# Altium footprint library buck4.PcbLib: 16 footprints
Each footprint in its own frame and in the unit in brackets; x right, y up, seen from the top. Pads: shape width x height; smd on the part's side, far side on the other; paste and mask are expansions set on the pad; w line width, h text height; cw(c..) or ccw(c..) is an arc to the next point about the centre after c.
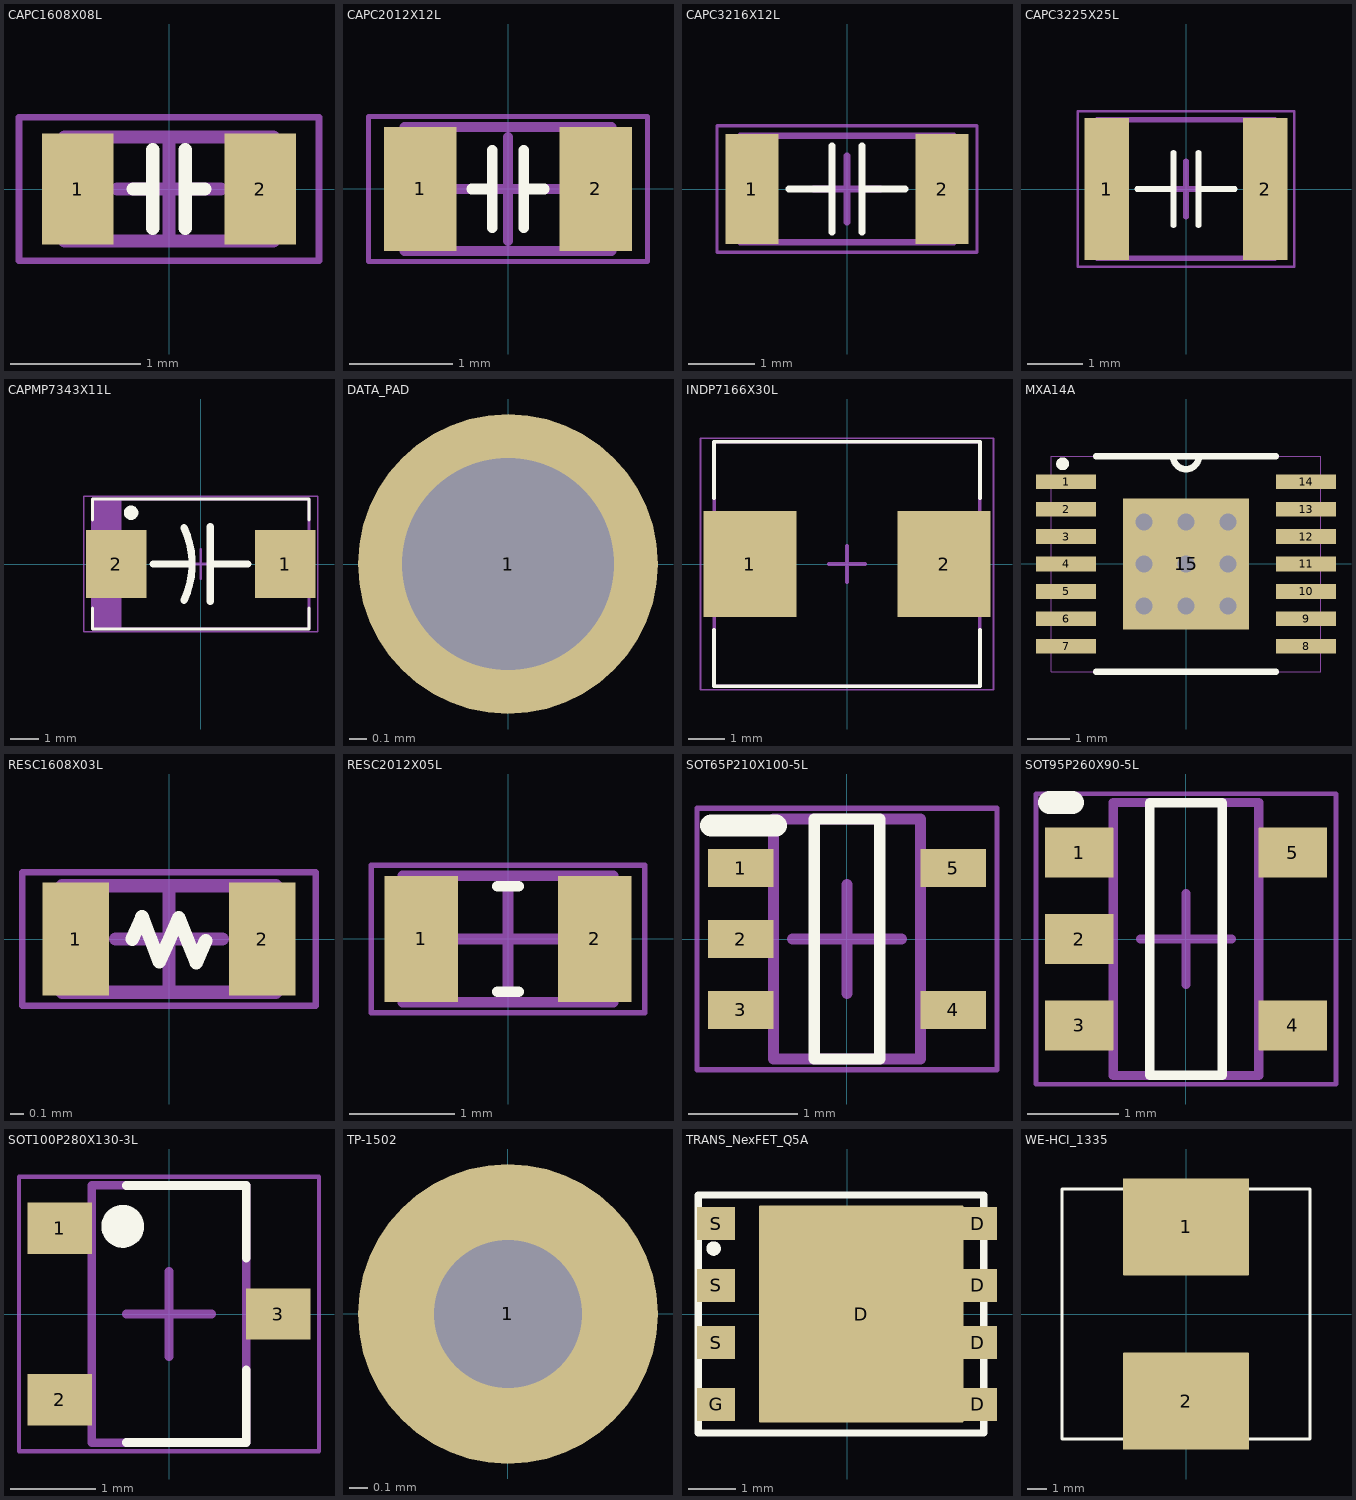
[diagram p0: the footprints below, top view; thin cyan lines are the x and y axes]

## CAPC1608X08L [mm] "Chip Capacitor, 2-Leads, Body 1.60x0.80mm, IPC High Density"
height 0.8
pads (2):
  rrect1% 0.55x0.85 smd: 1(-0.7,0) 2(0.7,0)
Top Overlay:
  lines w0.102: -0.275,0 -0.125,0 ; -0.125,-0.3 -0.125,0.3 ; 0.125,-0.3 0.125,0.3 ; 0.125,0 0.275,0
Top Courtyard:
  lines w0.05: -1.15,-0.55 1.15,-0.55 1.15,0.55 -1.15,0.55 -1.15,-0.55
  lines w0.1: -0.4,0 0.4,0 ; 0,-0.4 0,0.4
Mechanical 13:
  lines w0.1: -0.8,-0.4 0.8,-0.4 0.8,0.4 -0.8,0.4 -0.8,-0.4
3D body "CAPC1608X08L.step": height 0.8, standoff 0, extent -0.8,-0.4 0.8,0.4

## CAPC2012X12L [mm] "Chip Capacitor, 2-Leads, Body 2.00x1.20mm, IPC High Density"
height 1.2
pads (2):
  rrect1% 0.7x1.2 smd: 1(-0.85,0) 2(0.85,0)
Top Overlay:
  lines w0.102: -0.35,0 -0.15,0 ; -0.15,-0.375 -0.15,0.375 ; 0.15,-0.375 0.15,0.375 ; 0.15,0 0.35,0
Top Courtyard:
  lines w0.05: -1.35,-0.7 1.35,-0.7 1.35,0.7 -1.35,0.7 -1.35,-0.7
  lines w0.1: -0.5,0 0.5,0 ; 0,-0.5 0,0.5
Mechanical 13:
  lines w0.1: -1,-0.6 1,-0.6 1,0.6 -1,0.6 -1,-0.6
3D body "CAPC2012X12L.step": height 1.2, standoff 0, extent -1,-0.6 1,0.6

## CAPC3216X12L [mm] "Chip Capacitor, 2-Leads, Body 3.20x1.60mm, IPC High Density"
height 1.2
pads (2):
  rrect1% 0.8x1.65 smd: 1(-1.425,0) 2(1.425,0)
Top Overlay:
  lines w0.102: -0.875,0 -0.225,0 ; -0.225,-0.65 -0.225,0.65 ; 0.225,-0.65 0.225,0.65 ; 0.225,0 0.875,0
Top Courtyard:
  lines w0.05: -1.95,-0.95 1.95,-0.95 1.95,0.95 -1.95,0.95 -1.95,-0.95
  lines w0.1: -0.5,0 0.5,0 ; 0,-0.5 0,0.5
Mechanical 13:
  lines w0.1: -1.6,-0.8 1.6,-0.8 1.6,0.8 -1.6,0.8 -1.6,-0.8
3D body "CAPC3216X12L.step": height 1.2, standoff 0, extent -1.6,-0.8 1.6,0.8

## CAPC3225X25L [mm] "Chip Capacitor, 2-Leads, Body 3.20x2.50mm, IPC High Density"
height 2.5
pads (2):
  rrect1% 0.8x2.55 smd: 1(-1.425,0) 2(1.425,0)
Top Overlay:
  lines w0.102: -0.875,0 -0.225,0 ; -0.225,-0.65 -0.225,0.65 ; 0.225,-0.65 0.225,0.65 ; 0.225,0 0.875,0
Top Courtyard:
  lines w0.05: -1.95,-1.4 1.95,-1.4 1.95,1.4 -1.95,1.4 -1.95,-1.4
  lines w0.1: -0.5,0 0.5,0 ; 0,-0.5 0,0.5
Mechanical 13:
  lines w0.1: -1.6,-1.25 1.6,-1.25 1.6,1.25 -1.6,1.25 -1.6,-1.25
3D body "CAPC3225X25L.step": height 2.5, standoff 0, extent -1.6,-1.25 1.6,1.25

## CAPMP7343X11L [mm] "Molded Capacitor, 2-Leads, Body 7.30x4.30mm, IPC High Density"
height 1.1
pads (2):
  rrect1% 2.1x2.35 smd: 1(2.925,0) 2(-2.925,0)
Top Overlay:
  circle w0.25: c-2.413,1.778 r0.125
  lines w0.102: -3.75,-1.526 -3.75,-2.25 3.75,-2.25 3.75,-1.526 ; -3.75,1.526 -3.75,2.25 3.75,2.25 3.75,1.526
  lines w0.254: -1.65,0 -0.3,0 ; -0.581,-1.268 ccw(c-3.3,0) -0.581,1.268 ; 0.325,-1.3 0.325,1.3 ; 0.325,0 1.625,0
Top Courtyard:
  lines w0.05: -4.05,-2.35 4.05,-2.35 4.05,2.35 -4.05,2.35 -4.05,-2.35
  lines w0.1: -0.5,0 0.5,0 ; 0,-0.5 0,0.5
Mechanical 13:
  rectangle: -3.75,-2.25 -2.741,2.25
  lines w0.1: -3.75,-2.25 3.75,-2.25 3.75,2.25 -3.75,2.25 -3.75,-2.25
3D body "CAPMP7343X11L.step": height 1.1, standoff 0, extent -3.97,-2.25 3.97,2.25

## DATA_PAD [mm]
pads (1):
  round 1.7 hole 1.2: 1(0,0)

## INDP7166X30L [mm] "Precision Wire Wound Inductor, 2-Leads, Body 7.10x6.60mm, IPC High Density"
height 3
pads (2):
  rrect1% 2.6x2.95 smd: 1(-2.7,0) 2(2.7,0)
Top Overlay:
  lines w0.102: -3.7,-1.826 -3.7,-3.4 3.7,-3.4 3.7,-1.826 ; -3.7,1.826 -3.7,3.4 3.7,3.4 3.7,1.826
Top Courtyard:
  lines w0.05: -4.075,-3.5 -4.075,3.5 4.075,3.5 4.075,-3.5 -4.075,-3.5
  lines w0.1: -0.5,0 0.5,0 ; 0,-0.5 0,0.5
Mechanical 13:
  lines w0.1: -3.7,-3.4 -3.7,3.4 3.7,3.4 3.7,-3.4 -3.7,-3.4
3D body "INDP7166X30L.step": height 3.1, standoff 0, extent -3.65,-3.3 3.65,3.3

## MXA14A [mil]
pads (15):
  rrect1% 56x13.78 smd mask+1.97: 1(-112,76.77) 2(-112,51.18) 3(-112,25.59) 4(-112,0) 5(-112,-25.59) 6(-112,-51.18) 7(-112,-76.77) 8(112,-76.77) 9(112,-51.18) 10(112,-25.59) 11(112,0) 12(112,25.59) 13(112,51.18) 14(112,76.77)
  rrect1% 118x122 smd mask+1.97: 15(0,0)
via -39.37,0 diameter 25.59 hole 15.75
via -39.37,-39.37 diameter 25.59 hole 15.75
via 0,-39.37 diameter 25.59 hole 15.75
via 39.37,-39.37 diameter 25.59 hole 15.75
via 39.37,0 diameter 25.59 hole 15.75
via 39.37,39.37 diameter 25.59 hole 15.75
via 0,39.37 diameter 25.59 hole 15.75
via -39.37,39.37 diameter 25.59 hole 15.75
via 0,0 diameter 25.59 hole 15.75
Top Overlay:
  circle w6: c-115.16,93.5 r3
  lines w6: -84.02,-100.5 84.02,-100.5 ; -84.02,100.5 84.02,100.5 ; -12,100.5 ccw(c0,100.5) 12,100.5
Top Solder:
  circle w7.87: c-39.37,39.37 r15.75
  circle w7.87: c0,39.37 r15.75
  circle w7.87: c39.37,39.37 r15.75
  circle w7.87: c39.37,0 r15.75
  circle w7.87: c-39.37,0 r15.75
  circle w7.87: c-39.37,-39.37 r15.75
  circle w7.87: c0,-39.37 r15.75
  circle w7.87: c39.37,-39.37 r15.75
  circle w7.87: c0,0 r15.75
  rectangle: 51.18,-61.02 61.02,61.02
  region: 61.02,11.81 61.02,27.56 -61.02,27.56 -61.02,11.81
  region: 61.02,-27.56 61.02,-11.81 -61.02,-11.81 -61.02,-27.56
  region: 61.02,-61.02 61.02,-51.18 -61.02,-51.18 -61.02,-61.02
  region: 61.02,51.18 61.02,61.02 -61.02,61.02 -61.02,51.18
  rectangle: -61.02,-61.02 -51.18,61.02
  rectangle: -27.56,-61.02 -11.81,61.02
  rectangle: 11.81,-61.02 27.56,61.02
Top Courtyard:
  lines w1: -125.98,-100.39 125.98,-100.39 125.98,100.39 -125.98,100.39 -125.98,-100.39
3D body "MXA14A.stp": height 43.1, standoff 0, extent -126,-100.5 126,100.5

## RESC1608X03L [mm] "Chip Resistor, 2-Leads, Body 1.60x0.80mm, IPC High Density"
height 0.3
pads (2):
  rrect1% 0.5x0.85 smd: 1(-0.7,0) 2(0.7,0)
Top Overlay:
  lines w0.102: -0.275,0 -0.203,0.165 -0.137,-0.003 -0.072,-0.171 0.001,-0.006 0.073,0.159 0.139,-0.009 0.204,-0.177 0.277,-0.011
Top Courtyard:
  lines w0.05: -1.1,-0.5 -1.1,0.5 1.1,0.5 1.1,-0.5 -1.1,-0.5
  lines w0.1: -0.4,0 0.4,0 ; 0,-0.4 0,0.4
Mechanical 13:
  lines w0.1: -0.8,-0.4 -0.8,0.4 0.8,0.4 0.8,-0.4 -0.8,-0.4
3D body "RESC1608X03L.step": height 0.3, standoff 0, extent -0.8,-0.4 0.8,0.4

## RESC2012X05L [mm] "Chip Resistor, 2-Leads, Body 2.00x1.20mm, IPC High Density"
height 0.5
pads (2):
  rrect1% 0.7x1.2 smd: 1(-0.825,0) 2(0.825,0)
Top Overlay:
  lines w0.102: -0.1,-0.5 0.1,-0.5 ; -0.1,0.5 0.1,0.5
Top Courtyard:
  lines w0.05: -1.3,-0.7 -1.3,0.7 1.3,0.7 1.3,-0.7 -1.3,-0.7
  lines w0.1: -0.5,0 0.5,0 ; 0,-0.5 0,0.5
Mechanical 13:
  lines w0.1: -1,-0.6 -1,0.6 1,0.6 1,-0.6 -1,-0.6
3D body "RESC2012X05L.step": height 0.5, standoff 0, extent -1,-0.6 1,0.6

## SOT65P210X100-5L [mm] "SOT23, 5-Leads, Body 2.00x2.10mm, Pitch 0.65mm, IPC High Density"
height 1
pads (5):
  rrect1% 0.6x0.35 smd: 1(-0.975,0.65) 2(-0.975,0) 3(-0.975,-0.65) 4(0.975,-0.65) 5(0.975,0.65)
Top Overlay:
  lines w0.102: -0.3,-1.1 0.3,-1.1 0.3,1.1 -0.3,1.1 -0.3,-1.1
  lines w0.203: -1.245,1.041 -0.65,1.041
Mechanical 13:
  lines w0.1: -0.675,-1.1 -0.675,1.1 0.675,1.1 0.675,-1.1 -0.675,-1.1
Mechanical 15:
  lines w0.05: -1.375,-1.2 -1.375,1.2 1.375,1.2 1.375,-1.2 -1.375,-1.2
  lines w0.1: -0.5,0 0.5,0 ; 0,-0.5 0,0.5
3D body "SOT65P210X100-5L.step": height 1, standoff 0, extent -1.1,-1.1 1.1,1.1

## SOT95P260X90-5L [mm] "SOT23, 5-Leads, Body 3.00x2.60mm, Pitch 0.95mm, IPC High Density"
height 0.9
pads (5):
  rrect1% 0.75x0.55 smd: 1(-1.175,0.95) 2(-1.175,0) 3(-1.175,-0.95) 4(1.175,-0.95) 5(1.175,0.95)
Top Overlay:
  lines w0.102: -0.4,-1.5 -0.4,1.5 0.4,1.5 0.4,-1.5 -0.4,-1.5
  lines w0.254: -1.5,1.5 -1.25,1.5
Top Courtyard:
  lines w0.05: -1.65,-1.6 1.65,-1.6 1.65,1.6 -1.65,1.6 -1.65,-1.6
  lines w0.1: -0.5,0 0.5,0 ; 0,-0.5 0,0.5
Mechanical 13:
  lines w0.1: -0.8,-1.5 0.8,-1.5 0.8,1.5 -0.8,1.5 -0.8,-1.5
3D body "SOT95P260X90-5L.step": height 0.9, standoff 0, extent -1.4,-1.5 1.4,1.5

## SOT100P280X130-3L [mm] "SOT23, 3-Leads, Body 2.90x2.80mm, Pitch 1.00mm, IPC High Density"
height 1.3
pads (3):
  rrect1% 0.75x0.6 smd: 1(-1.275,1) 2(-1.275,-1) 3(1.275,0)
Top Overlay:
  circle w0.25: c-0.54,1.023 r0.125
  lines w0.102: -0.5,-1.5 0.9,-1.5 0.9,-0.651 ; -0.5,1.5 0.9,1.5 0.9,0.651
Top Courtyard:
  lines w0.05: -1.75,-1.6 1.75,-1.6 1.75,1.6 -1.75,1.6 -1.75,-1.6
  lines w0.1: -0.5,0 0.5,0 ; 0,-0.5 0,0.5
Mechanical 13:
  lines w0.1: -0.9,-1.5 0.9,-1.5 0.9,1.5 -0.9,1.5 -0.9,-1.5
3D body "SOT100P280X130-3L.step": height 1.3, standoff 0, extent -1.5,-1.5 1.5,1.5

## TP-1502 [mil]
pads (1):
  round 65 / inner round 60 / far side round 65 hole 32: 1(0,0)
3D body: height 10, standoff 0, extent 0,0 10,10

## TRANS_NexFET_Q5A [mm]
pads (9):
  rrect1% 4.3x4.56 smd paste+0.05 mask+0.05: D(0.3,0)
  rrect1% 0.8x0.7 smd paste+0.05 mask+0.05: D(2.752,-1.9) D(2.752,-0.6) D(2.752,0.6) D(2.752,1.9) G(-2.752,-1.9) S(-2.752,-0.6) S(-2.752,0.6) S(-2.752,1.9)
Top Overlay:
  circle w0.152: c-2.804,1.376 r0.076
  lines w0.152: -3.125,-2.5 -3.125,2.5 2.875,2.5 2.875,-2.5 -3.125,-2.5
Top Paste:
  region: -0.617,2.18 -1.85,2.18 -1.85,0.86 -0.617,0.86
  region: -0.617,0.66 -1.85,0.66 -1.85,-0.66 -0.617,-0.66
  region: -0.617,-0.86 -1.85,-0.86 -1.85,-2.18 -0.617,-2.18
  region: 0.817,2.18 -0.417,2.18 -0.417,0.86 0.817,0.86
  region: 0.817,0.66 -0.417,0.66 -0.417,-0.66 0.817,-0.66
  region: 0.817,-0.86 -0.417,-0.86 -0.417,-2.18 0.817,-2.18
  region: 2.25,2.18 1.017,2.18 1.017,0.86 2.25,0.86
  region: 2.25,0.66 1.017,0.66 1.017,-0.66 2.25,-0.66
  region: 2.25,-0.86 1.017,-0.86 1.017,-2.18 2.25,-2.18
Top Courtyard:
  lines w0.025: -3.125,-2.5 -3.125,2.5 2.875,2.5 2.875,-2.5 -3.125,-2.5
3D body "Component1.step": height 1.05, standoff 0, extent -3.127,-2.5 2.873,2.5

## WE-HCI_1335 [mm]
pads (2):
  rrect1% 6.5x5 smd paste+0 mask+0.051: 1(0,4.5) 2(0,-4.5)
Top Overlay:
  lines w0.152: -6.4,-6.45 6.4,-6.45 6.4,6.45 -6.4,6.45 -6.4,-6.45
Top Courtyard:
  lines w0.025: -6.4,-6.45 6.4,-6.45 6.4,6.45 -6.4,6.45 -6.4,-6.45
3D body "WE-HCI-1335_rev1.stp": height 3.4, standoff -0.1, extent -6.4,-6.45 6.4,6.45